# Altium footprint library DuraClik-560020.PcbLib: 14 footprints
Each footprint in its own frame and in the unit in brackets; x right, y up, seen from the top. Pads: shape width x height; smd on the part's side, far side on the other; paste and mask are expansions set on the pad; w line width, h text height; cw(c..) or ccw(c..) is an arc to the next point about the centre after c.
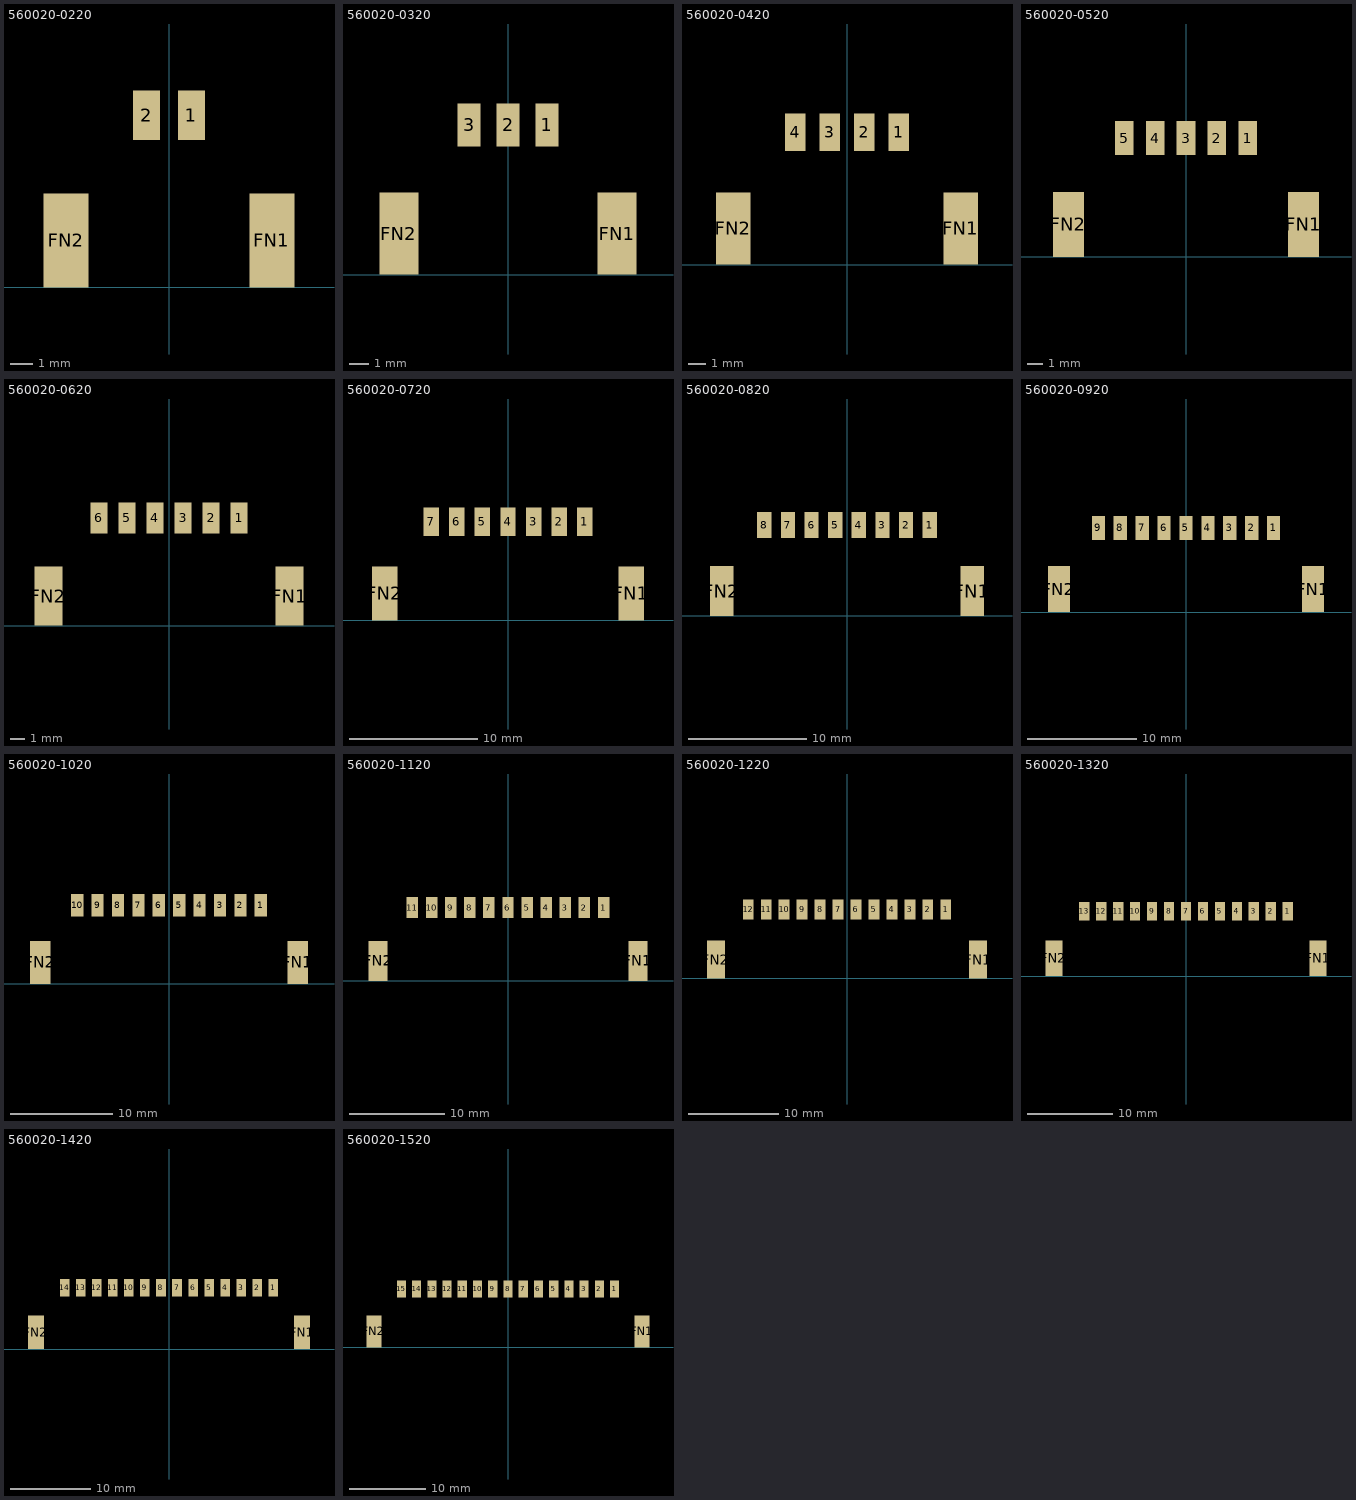
[diagram p0: the footprints below, top view; thin cyan lines are the x and y axes]

## 560020-0220 [mm]
pads (4):
  rect 1.2x2.2 smd: 1(1,7.68) 2(-1,7.68)
  rect 2x4.2 smd: FN1(4.6,2.1) FN2(-4.6,2.1)
3D body "5600200220.stp": height 8, standoff 0, extent -5.45,-0.86 5.45,8.29

## 560020-0320 [mm]
pads (5):
  rect 1.2x2.2 smd: 1(2,7.68) 2(0,7.68) 3(-2,7.68)
  rect 2x4.2 smd: FN1(5.6,2.1) FN2(-5.6,2.1)
3D body "5600200320.stp": height 8, standoff 0, extent -6.3,-0.86 6.3,8.29

## 560020-0420 [mm]
pads (6):
  rect 1.2x2.2 smd: 1(3,7.68) 2(1,7.68) 3(-1,7.68) 4(-3,7.68)
  rect 2x4.2 smd: FN1(6.6,2.1) FN2(-6.6,2.1)
3D body "5600200420.stp": height 8, standoff 0, extent -7.3,-0.86 7.3,8.29

## 560020-0520 [mm]
pads (7):
  rect 1.2x2.2 smd: 1(4,7.68) 2(2,7.68) 3(0,7.68) 4(-2,7.68) 5(-4,7.68)
  rect 2x4.2 smd: FN1(7.6,2.1) FN2(-7.6,2.1)
3D body "5600200520.stp": height 8, standoff 0, extent -8.3,-0.86 8.3,8.29

## 560020-0620 [mm]
pads (8):
  rect 1.2x2.2 smd: 1(5,7.68) 2(3,7.68) 3(1,7.68) 4(-1,7.68) 5(-3,7.68) 6(-5,7.68)
  rect 2x4.2 smd: FN1(8.6,2.1) FN2(-8.6,2.1)
3D body "5600200620.stp": height 8, standoff 0, extent -9.3,-0.86 9.3,8.29

## 560020-0720 [mm]
pads (9):
  rect 1.2x2.2 smd: 1(6,7.68) 2(4,7.68) 3(2,7.68) 4(0,7.68) 5(-2,7.68) 6(-4,7.68) 7(-6,7.68)
  rect 2x4.2 smd: FN1(9.6,2.1) FN2(-9.6,2.1)
3D body "5600200720.stp": height 8, standoff 0, extent -10.3,-0.86 10.3,8.29

## 560020-0820 [mm]
pads (10):
  rect 1.2x2.2 smd: 1(7,7.68) 2(5,7.68) 3(3,7.68) 4(1,7.68) 5(-1,7.68) 6(-3,7.68) 7(-5,7.68) 8(-7,7.68)
  rect 2x4.2 smd: FN1(10.6,2.1) FN2(-10.6,2.1)
3D body "5600200820.stp": height 8, standoff 0, extent -11.3,-0.86 11.3,8.29

## 560020-0920 [mm]
pads (11):
  rect 1.2x2.2 smd: 1(8,7.68) 2(6,7.68) 3(4,7.68) 4(2,7.68) 5(0,7.68) 6(-2,7.68) 7(-4,7.68) 8(-6,7.68) 9(-8,7.68)
  rect 2x4.2 smd: FN1(11.6,2.1) FN2(-11.6,2.1)
3D body "5600200920.stp": height 8, standoff 0, extent -12.3,-0.86 12.3,8.29

## 560020-1020 [mm]
pads (12):
  rect 1.2x2.2 smd: 1(9,7.68) 2(7,7.68) 3(5,7.68) 4(3,7.68) 5(1,7.68) 6(-1,7.68) 7(-3,7.68) 8(-5,7.68) 9(-7,7.68) 10(-9,7.68)
  rect 2x4.2 smd: FN1(12.6,2.1) FN2(-12.6,2.1)
3D body "5600201020.stp": height 8, standoff 0, extent -13.3,-0.86 13.3,8.29

## 560020-1120 [mm]
pads (13):
  rect 1.2x2.2 smd: 1(10,7.68) 2(8,7.68) 3(6,7.68) 4(4,7.68) 5(2,7.68) 6(0,7.68) 7(-2,7.68) 8(-4,7.68) 9(-6,7.68) 10(-8,7.68) 11(-10,7.68)
  rect 2x4.2 smd: FN1(13.6,2.1) FN2(-13.6,2.1)
3D body "5600201120.stp": height 8, standoff 0, extent -14.3,-0.86 14.3,8.29

## 560020-1220 [mm]
pads (14):
  rect 1.2x2.2 smd: 1(11,7.68) 2(9,7.68) 3(7,7.68) 4(5,7.68) 5(3,7.68) 6(1,7.68) 7(-1,7.68) 8(-3,7.68) 9(-5,7.68) 10(-7,7.68) 11(-9,7.68) 12(-11,7.68)
  rect 2x4.2 smd: FN1(14.6,2.1) FN2(-14.6,2.1)
3D body "5600201220.stp": height 8, standoff 0, extent -15.3,-0.86 15.3,8.29

## 560020-1320 [mm]
pads (15):
  rect 1.2x2.2 smd: 1(12,7.68) 2(10,7.68) 3(8,7.68) 4(6,7.68) 5(4,7.68) 6(2,7.68) 7(0,7.68) 8(-2,7.68) 9(-4,7.68) 10(-6,7.68) 11(-8,7.68) 12(-10,7.68) 13(-12,7.68)
  rect 2x4.2 smd: FN1(15.6,2.1) FN2(-15.6,2.1)
3D body "5600201320.stp": height 8, standoff 0, extent -16.3,-0.86 16.3,8.29

## 560020-1420 [mm]
pads (16):
  rect 1.2x2.2 smd: 1(13,7.68) 2(11,7.68) 3(9,7.68) 4(7,7.68) 5(5,7.68) 6(3,7.68) 7(1,7.68) 8(-1,7.68) 9(-3,7.68) 10(-5,7.68) 11(-7,7.68) 12(-9,7.68) 13(-11,7.68) 14(-13,7.68)
  rect 2x4.2 smd: FN1(16.6,2.1) FN2(-16.6,2.1)
3D body "5600201420.stp": height 8, standoff 0, extent -17.3,-0.86 17.3,8.29

## 560020-1520 [mm]
pads (17):
  rect 1.2x2.2 smd: 1(14,7.68) 2(12,7.68) 3(10,7.68) 4(8,7.68) 5(6,7.68) 6(4,7.68) 7(2,7.68) 8(0,7.68) 9(-2,7.68) 10(-4,7.68) 11(-6,7.68) 12(-8,7.68) 13(-10,7.68) 14(-12,7.68) 15(-14,7.68)
  rect 2x4.2 smd: FN1(17.6,2.1) FN2(-17.6,2.1)
3D body "5600201520.stp": height 8, standoff 0, extent -18.3,-0.86 18.3,8.29